# Altium footprint library Adafruit TCA9548A.PcbLib: 10 footprints
Each footprint in its own frame and in the unit in brackets; x right, y up, seen from the top. Pads: shape width x height; smd on the part's side, far side on the other; paste and mask are expansions set on the pad; w line width, h text height; cw(c..) or ccw(c..) is an arc to the next point about the centre after c.
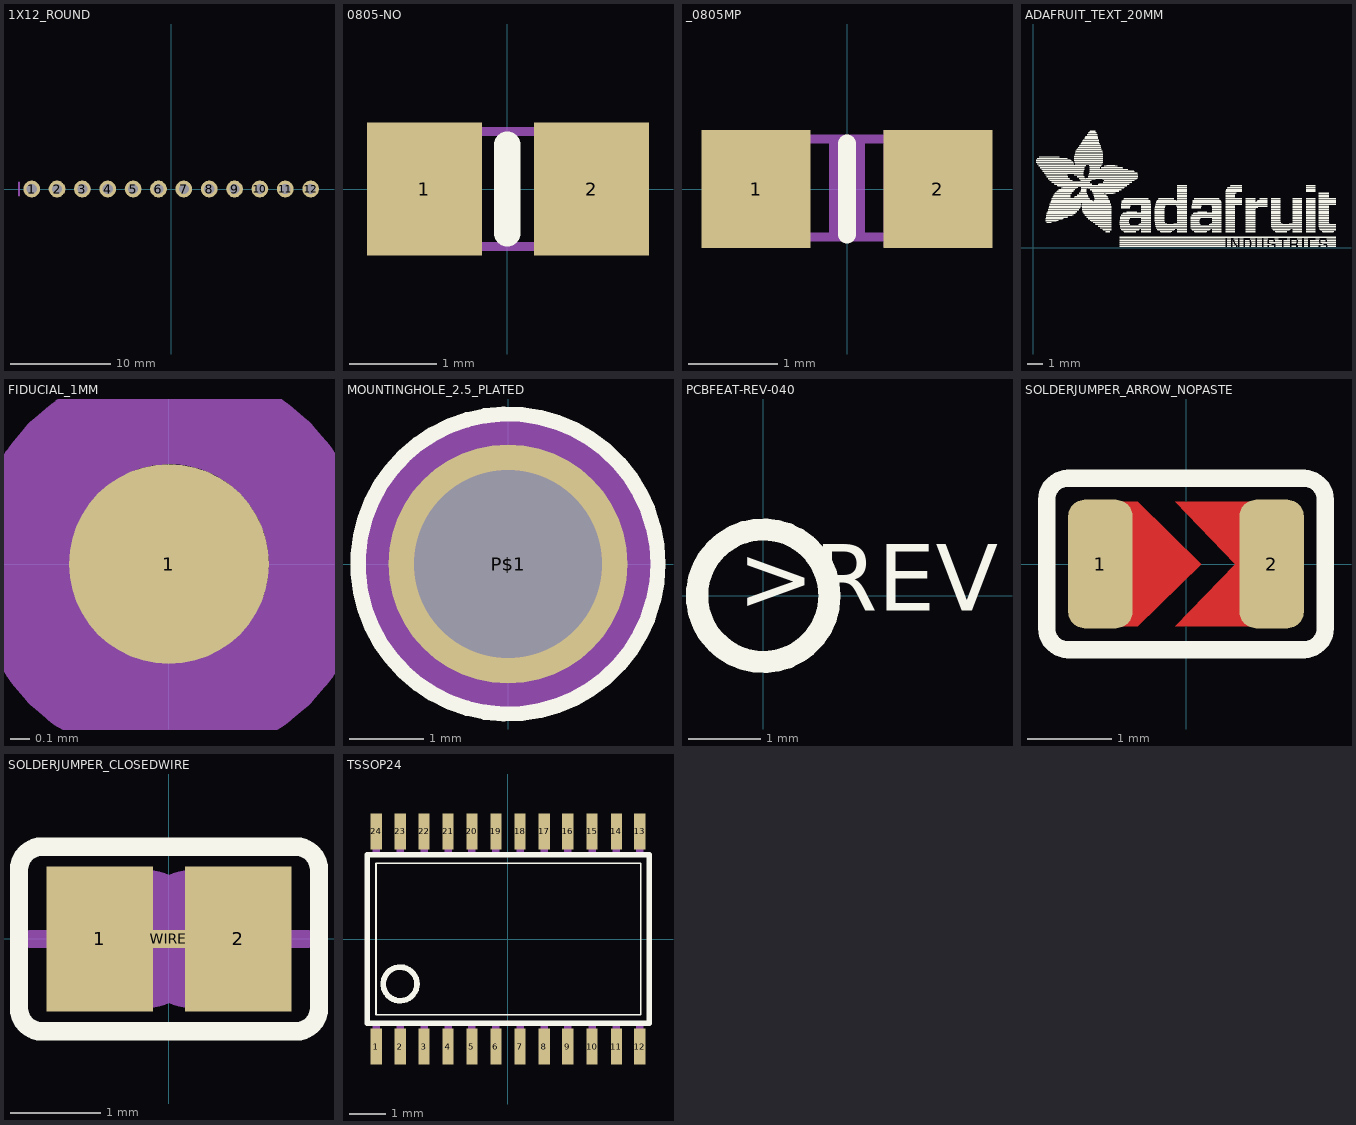
[diagram p0: the footprints below, top view; thin cyan lines are the x and y axes]

## 1X12_ROUND [mil] "1X12_ROUND"
pads (12):
  round 66 hole 40: 1(-550,0) 2(-450,0) 3(-350,0) 4(-250,0) 5(-150,0) 6(-50,0) 7(50,0) 8(150,0) 9(250,0) 10(350,0) 11(450,0) 12(550,0)
Mechanical 16:
  rectangle: 240,-10 260,10
  rectangle: 140,-10 160,10
  rectangle: 40,-10 60,10
  rectangle: -60,-10 -40,10
  rectangle: -160,-10 -140,10
  rectangle: -260,-10 -240,10
  rectangle: -360,-10 -340,10
  rectangle: -460,-10 -440,10
  rectangle: -560,-10 -540,10
  rectangle: 340,-10 360,10
  rectangle: 440,-10 460,10
  rectangle: 540,-10 560,10
  lines w8: -600,-25 -600,25

## 0805-NO [mil] "0805-NO"
pads (2):
  rect 52x60 smd: 1(-37.4,0) 2(38,0)
Top Overlay:
  lines w12: 0,-20 0,20
Mechanical 16:
  rectangle: -43,-28.5 -13.47,29
  rectangle: 14,-28.5 44,29
  lines w4: -15,26 15,26 ; -14.02,-25.98 15,-25.98

## _0805MP [mil] "_0805MP"
pads (2):
  rect 48x52 smd: 1(-40,0) 2(40,0)
Top Overlay:
  lines w8: 0,-20 0,20
Mechanical 6:
  rectangle: -7.87,-19.69 8,20
Mechanical 16:
  rectangle: 16,-25.59 40,26
  rectangle: -39.37,-25.59 -16.41,26
  lines w4: -20.08,-21.06 21,-21.06 ; -20.08,22 21,22

## ADAFRUIT_TEXT_20MM [mil] "ADAFRUIT_TEXT_20MM"
Top Overlay:
  drawing of 1914 lines, arcs and shapes, not listed

## FIDUCIAL_1MM [mil] "FIDUCIAL_1MM"
pads (1):
  rrect100% 40x40 smd: 1(0,0)
Top Solder:
  lines w20: -29.53,0 cw(c0.24,0.24) 0,30 cw(c0,0) 30,0 cw(c0.24,0.24) 0,-29.53 cw(c0,0) -29.53,0
Mechanical 8:
  lines w20: -29.53,0 cw(c0.24,0.24) 0,30 cw(c0,0) 30,0 cw(c0.24,0.24) 0,-29.53 cw(c0,0) -29.53,0
Mechanical 16:
  lines w20: -29.53,0 cw(c0.24,0.24) 0,30 cw(c0,0) 30,0 cw(c0.24,0.24) 0,-29.53 cw(c0,0) -29.53,0

## MOUNTINGHOLE_2.5_PLATED [mil] "MOUNTINGHOLE_2.5_PLATED"
pads (1):
  round 126 hole 99: P$1(0,0)
Top Overlay:
  circle w8: c0,0 r79
Mechanical 8:
  circle w80: c0,0 r40
Mechanical 9:
  circle w80: c0,0 r40
Mechanical 16:
  circle w80: c0,0 r40
  circle w80: c0,0 r40

## PCBFEAT-REV-040 [mil] "PCBFEAT-REV-040"
Top Overlay:
  circle w12: c0,0 r36
  text ">REV" at -14,-20 h62

## SOLDERJUMPER_ARROW_NOPASTE [mil] "SOLDERJUMPER_ARROW_NOPASTE"
pads (2):
  rrect50% 30x60 smd: 1(-40,0) 2(40,0)
Top Layer:
  region: -45,29 -22.5,29 7,0 -22.5,-29 -45,-29
  region: -5,29 23,0 -5,-29 45,-29 45,29
Top Overlay:
  lines w8: -65,-30 ccw(c-55,-30) -55,-40 55,-40 ccw(c55,-30) 65,-30 65,30 ccw(c55,30) 55,40 -55,40 ccw(c-55,30) -65,30 -65,-30
Top Solder:
  rectangle: -57.5,-32.5 58,33

## SOLDERJUMPER_CLOSEDWIRE [mil] "SOLDERJUMPER_CLOSEDWIRE"
pads (3):
  rect 46x63 smd: 1(-30,0) 2(30,0)
  rect 25x8 smd: WIRE(0,0)
Top Overlay:
  lines w8: -65,-30 ccw(c-55,-30) -55,-40 55,-40 ccw(c55,-30) 65,-30 65,30 ccw(c55,30) 55,40 -55,40 ccw(c-55,30) -65,30 -65,-30
Top Solder:
  region: -50,30 50,30 50,-30 -50,-30
Mechanical 16:
  lines w8: -60,0 -40,0 ; 40,0 60,0
  lines w50: -10,-5 cw(c-10,0) -10,5 ; 10,-5 ccw(c10,0) 10,5

## TSSOP24 [mil] "TSSOP24"
pads (24):
  rect 12x39 smd: 1(-140.75,-114.87) 2(-115.16,-114.87) 3(-89.57,-114.87) 4(-63.98,-114.87) 5(-38.39,-114.87) 6(-12.8,-114.87) 7(13,-114.87) 8(39,-114.87) 9(64,-114.87) 10(90,-114.87) 11(116,-114.87) 12(141,-114.87) 13(141,115) 14(116,115) 15(90,115) 16(64,115) 17(39,115) 18(13,115) 19(-12.8,115) 20(-38.39,115) 21(-63.98,115) 22(-89.57,115) 23(-115.16,115) 24(-140.75,115)
Top Overlay:
  circle w6: c-115.18,-48 r18
  lines w2: -141.18,-80.87 142,-80.87 142,81 -141.18,81 -141.18,-80.87
  lines w6: -150.18,-89.87 151,-89.87 151,90 -150.18,90 -150.18,-89.87
Mechanical 16:
  rectangle: -144.75,-122.87 -136.75,-89.87
  rectangle: -119.16,-122.87 -111.16,-89.87
  rectangle: -93.57,-122.87 -85.57,-89.87
  rectangle: -67.98,-122.87 -59.98,-89.87
  rectangle: -42.39,-122.87 -34.39,-89.87
  rectangle: -16.8,-122.87 -8.8,-89.87
  rectangle: 9,-122.87 17,-89.87
  rectangle: 35,-122.87 43,-89.87
  rectangle: 60,-122.87 68,-89.87
  rectangle: 86,-122.87 94,-89.87
  rectangle: 86,90 94,123
  rectangle: 60,90 68,123
  rectangle: 35,90 43,123
  rectangle: 9,90 17,123
  rectangle: -16.8,90 -8.8,123
  rectangle: -42.39,90 -34.39,123
  rectangle: -67.98,90 -59.98,123
  rectangle: -93.57,90 -85.57,123
  rectangle: -119.16,90 -111.16,123
  rectangle: -144.75,90 -136.75,123
  rectangle: 112,-122.87 120,-89.87
  rectangle: 112,90 120,123
  rectangle: 137,-122.87 145,-89.87
  rectangle: 137,90 145,123